# Altium schematic symbol library Voltage Reg5.SchLib: 1 symbol
Pins are listed as number, name and electrical type; pins without a type are passive.

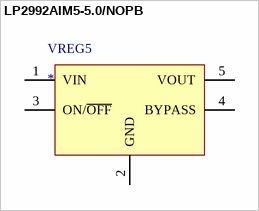
[diagram p0: symbol LP2992AIM5-5.0/NOPB]

## LP2992AIM5-5.0/NOPB
designator VREG5
footprint VREG-5 (SOT23, 5-Leads, Body 2.90x2.80mm, Pitch 0.95mm, IPC Medium Density)
pins: 1 VIN, 2 GND, 3 ON/~{OFF}, 4 BYPASS, 5 VOUT